# Altium integrated library Altium_WCAP-CSGP_rev19b.IntLib: 939 symbols (part 4 of 16)
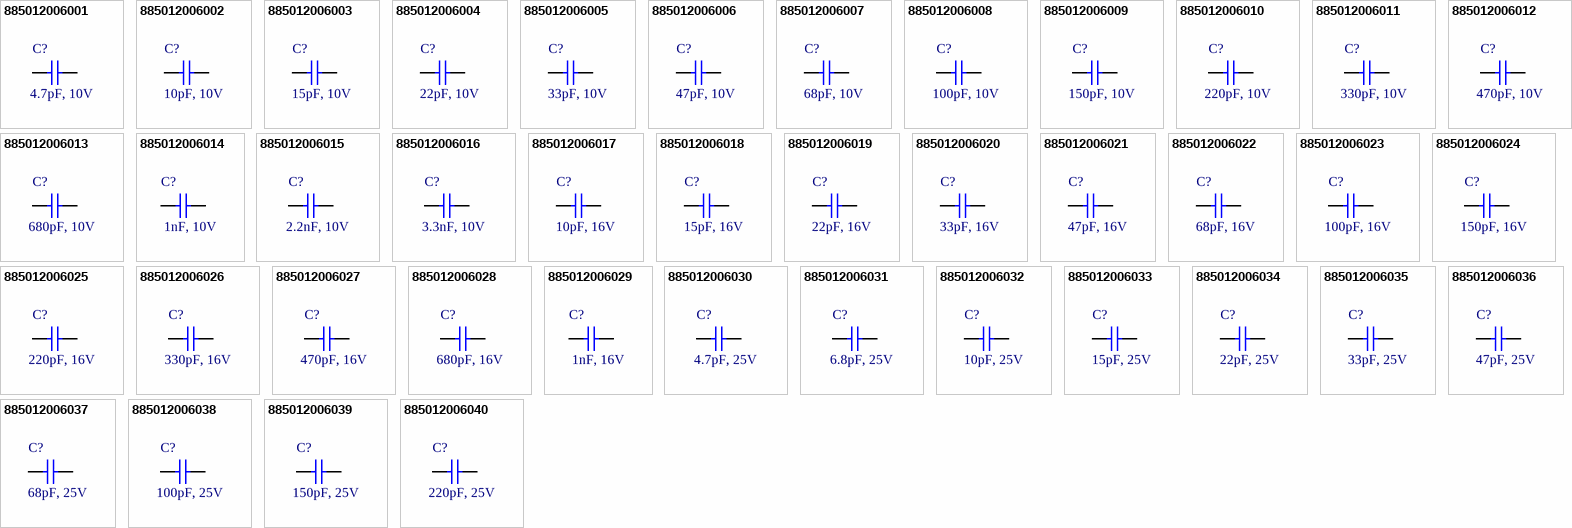
[diagram p30: symbols 885012006001 to 885012006040]

## 885012006028
designator C?, comment 680pF, 16V
WCAP-CSGP General Purpose Ceramic Capacitors, size 0603, 680pF, +/-5%, 16VDC; Part Number: 885012006028; Isolation Resistance: >=10GOhm; Ceramic Type: NP0; Dissipation Factor: Q>=1000; Technical Reference: NP00603681J016DFCT10000; ComponentLink1Description: Manufacturer; ComponentLink1URL: http://www.we-online.de; ComponentLink2Description: Datasheet; ComponentLink2URL: https://katalog.we-online.com/pbs/datasheet/885012006028.pdf; Operating Temperature: -55 to +125degC; Packaging: Tape and Reel; Publisher: Wurth Elektronik; Rated Voltage: 16VDC; Published Date: August 2019; Capacitance Tolerance: +/-5%; Height: 0.8mm +/-0.07mm; Mounting Technology: SMT; Size: 0603; Capacitance: 680pF
footprint WCAP-CSGP_0603_Wave
footprint WCAP-CSGP_0603_Reflow
pins: 1, 2

## 885012006029
designator C?, comment 1nF, 16V
WCAP-CSGP General Purpose Ceramic Capacitors, size 0603, 1nF, +/-5%, 16VDC; Part Number: 885012006029; Isolation Resistance: >=10GOhm; Ceramic Type: NP0; Dissipation Factor: Q>=1000; Technical Reference: NP00603102J016DFCT10000; ComponentLink1Description: Manufacturer; ComponentLink1URL: http://www.we-online.de; ComponentLink2Description: Datasheet; ComponentLink2URL: https://katalog.we-online.com/pbs/datasheet/885012006029.pdf; Operating Temperature: -55 to +125degC; Packaging: Tape and Reel; Publisher: Wurth Elektronik; Rated Voltage: 16VDC; Published Date: August 2019; Capacitance Tolerance: +/-5%; Height: 0.8mm +/-0.07mm; Mounting Technology: SMT; Size: 0603; Capacitance: 1nF
footprint WCAP-CSGP_0603_Wave
footprint WCAP-CSGP_0603_Reflow
pins: 1, 2

## 885012006030
designator C?, comment 4.7pF, 25V
WCAP-CSGP General Purpose Ceramic Capacitors, size 0603, 4.7pF, +/-0.5pF, 25VDC; Part Number: 885012006030; Isolation Resistance: >=10GOhm; Ceramic Type: NP0; Dissipation Factor: Q>=400+20C; Technical Reference: NP006034R7D025DFCT10000; ComponentLink1Description: Manufacturer; ComponentLink1URL: http://www.we-online.de; ComponentLink2Description: Datasheet; ComponentLink2URL: https://katalog.we-online.com/pbs/datasheet/885012006030.pdf; Operating Temperature: -55 to +125degC; Packaging: Tape and Reel; Publisher: Wurth Elektronik; Rated Voltage: 25VDC; Published Date: August 2019; Capacitance Tolerance: +/-0.5pF; Height: 0.8mm +/-0.07mm; Mounting Technology: SMT; Size: 0603; Capacitance: 4.7pF
footprint WCAP-CSGP_0603_Wave
footprint WCAP-CSGP_0603_Reflow
pins: 1, 2

## 885012006031
designator C?, comment 6.8pF, 25V
WCAP-CSGP General Purpose Ceramic Capacitors, size 0603, 6.8pF, +/-0.5pF, 25VDC; Part Number: 885012006031; Isolation Resistance: >=10GOhm; Ceramic Type: NP0; Dissipation Factor: Q>=400+20C; Technical Reference: NP006036R8D025DFCT10000; ComponentLink1Description: Manufacturer; ComponentLink1URL: http://www.we-online.de; ComponentLink2Description: Datasheet; ComponentLink2URL: https://katalog.we-online.com/pbs/datasheet/885012006031.pdf; Operating Temperature: -55 to +125degC; Packaging: Tape and Reel; Publisher: Wurth Elektronik; Rated Voltage: 25VDC; Published Date: August 2019; Capacitance Tolerance: +/-0.5pF; Height: 0.8mm +/-0.07mm; Mounting Technology: SMT; Size: 0603; Capacitance: 6.8pF
footprint WCAP-CSGP_0603_Wave
footprint WCAP-CSGP_0603_Reflow
pins: 1, 2

## 885012006032
designator C?, comment 10pF, 25V
WCAP-CSGP General Purpose Ceramic Capacitors, size 0603, 10pF, +/-5%, 25VDC; Part Number: 885012006032; Isolation Resistance: >=10GOhm; Ceramic Type: NP0; Dissipation Factor: Q>=400+20C; Technical Reference: NP00603100J025DFCT10000; ComponentLink1Description: Manufacturer; ComponentLink1URL: http://www.we-online.de; ComponentLink2Description: Datasheet; ComponentLink2URL: https://katalog.we-online.com/pbs/datasheet/885012006032.pdf; Operating Temperature: -55 to +125degC; Packaging: Tape and Reel; Publisher: Wurth Elektronik; Rated Voltage: 25VDC; Published Date: August 2019; Capacitance Tolerance: +/-5%; Height: 0.8mm +/-0.07mm; Mounting Technology: SMT; Size: 0603; Capacitance: 10pF
footprint WCAP-CSGP_0603_Wave
footprint WCAP-CSGP_0603_Reflow
pins: 1, 2

## 885012006033
designator C?, comment 15pF, 25V
WCAP-CSGP General Purpose Ceramic Capacitors, size 0603, 15pF, +/-5%, 25VDC; Part Number: 885012006033; Isolation Resistance: >=10GOhm; Ceramic Type: NP0; Dissipation Factor: Q>=400+20C; Technical Reference: NP00603150J025DFCT10000; ComponentLink1Description: Manufacturer; ComponentLink1URL: http://www.we-online.de; ComponentLink2Description: Datasheet; ComponentLink2URL: https://katalog.we-online.com/pbs/datasheet/885012006033.pdf; Operating Temperature: -55 to +125degC; Packaging: Tape and Reel; Publisher: Wurth Elektronik; Rated Voltage: 25VDC; Published Date: August 2019; Capacitance Tolerance: +/-5%; Height: 0.8mm +/-0.07mm; Mounting Technology: SMT; Size: 0603; Capacitance: 15pF
footprint WCAP-CSGP_0603_Wave
footprint WCAP-CSGP_0603_Reflow
pins: 1, 2

## 885012006034
designator C?, comment 22pF, 25V
WCAP-CSGP General Purpose Ceramic Capacitors, size 0603, 22pF, +/-5%, 25VDC; Part Number: 885012006034; Isolation Resistance: >=10GOhm; Ceramic Type: NP0; Dissipation Factor: Q>=400+20C; Technical Reference: NP00603220J025DFCT10000; ComponentLink1Description: Manufacturer; ComponentLink1URL: http://www.we-online.de; ComponentLink2Description: Datasheet; ComponentLink2URL: https://katalog.we-online.com/pbs/datasheet/885012006034.pdf; Operating Temperature: -55 to +125degC; Packaging: Tape and Reel; Publisher: Wurth Elektronik; Rated Voltage: 25VDC; Published Date: August 2019; Capacitance Tolerance: +/-5%; Height: 0.8mm +/-0.07mm; Mounting Technology: SMT; Size: 0603; Capacitance: 22pF
footprint WCAP-CSGP_0603_Wave
footprint WCAP-CSGP_0603_Reflow
pins: 1, 2

## 885012006035
designator C?, comment 33pF, 25V
WCAP-CSGP General Purpose Ceramic Capacitors, size 0603, 33pF, +/-5%, 25VDC; Part Number: 885012006035; Isolation Resistance: >=10GOhm; Ceramic Type: NP0; Dissipation Factor: Q>=1000; Technical Reference: NP00603330J025DFCT10000; ComponentLink1Description: Manufacturer; ComponentLink1URL: http://www.we-online.de; ComponentLink2Description: Datasheet; ComponentLink2URL: https://katalog.we-online.com/pbs/datasheet/885012006035.pdf; Operating Temperature: -55 to +125degC; Packaging: Tape and Reel; Publisher: Wurth Elektronik; Rated Voltage: 25VDC; Published Date: August 2019; Capacitance Tolerance: +/-5%; Height: 0.8mm +/-0.07mm; Mounting Technology: SMT; Size: 0603; Capacitance: 33pF
footprint WCAP-CSGP_0603_Wave
footprint WCAP-CSGP_0603_Reflow
pins: 1, 2

## 885012006036
designator C?, comment 47pF, 25V
WCAP-CSGP General Purpose Ceramic Capacitors, size 0603, 47pF, +/-5%, 25VDC; Part Number: 885012006036; Isolation Resistance: >=10GOhm; Ceramic Type: NP0; Dissipation Factor: Q>=1000; Technical Reference: NP00603470J025DFCT10000; ComponentLink1Description: Manufacturer; ComponentLink1URL: http://www.we-online.de; ComponentLink2Description: Datasheet; ComponentLink2URL: https://katalog.we-online.com/pbs/datasheet/885012006036.pdf; Operating Temperature: -55 to +125degC; Packaging: Tape and Reel; Publisher: Wurth Elektronik; Rated Voltage: 25VDC; Published Date: August 2019; Capacitance Tolerance: +/-5%; Height: 0.8mm +/-0.07mm; Mounting Technology: SMT; Size: 0603; Capacitance: 47pF
footprint WCAP-CSGP_0603_Wave
footprint WCAP-CSGP_0603_Reflow
pins: 1, 2

## 885012006037
designator C?, comment 68pF, 25V
WCAP-CSGP General Purpose Ceramic Capacitors, size 0603, 68pF, +/-5%, 25VDC; Part Number: 885012006037; Isolation Resistance: >=10GOhm; Ceramic Type: NP0; Dissipation Factor: Q>=1000; Technical Reference: NP00603680J025DFCT10000; ComponentLink1Description: Manufacturer; ComponentLink1URL: http://www.we-online.de; ComponentLink2Description: Datasheet; ComponentLink2URL: https://katalog.we-online.com/pbs/datasheet/885012006037.pdf; Operating Temperature: -55 to +125degC; Packaging: Tape and Reel; Publisher: Wurth Elektronik; Rated Voltage: 25VDC; Published Date: August 2019; Capacitance Tolerance: +/-5%; Height: 0.8mm +/-0.07mm; Mounting Technology: SMT; Size: 0603; Capacitance: 68pF
footprint WCAP-CSGP_0603_Wave
footprint WCAP-CSGP_0603_Reflow
pins: 1, 2

## 885012006038
designator C?, comment 100pF, 25V
WCAP-CSGP General Purpose Ceramic Capacitors, size 0603, 100pF, +/-5%, 25VDC; Part Number: 885012006038; Isolation Resistance: >=10GOhm; Ceramic Type: NP0; Dissipation Factor: Q>=1000; Technical Reference: NP00603101J025DFCT10000; ComponentLink1Description: Manufacturer; ComponentLink1URL: http://www.we-online.de; ComponentLink2Description: Datasheet; ComponentLink2URL: https://katalog.we-online.com/pbs/datasheet/885012006038.pdf; Operating Temperature: -55 to +125degC; Packaging: Tape and Reel; Publisher: Wurth Elektronik; Rated Voltage: 25VDC; Published Date: August 2019; Capacitance Tolerance: +/-5%; Height: 0.8mm +/-0.07mm; Mounting Technology: SMT; Size: 0603; Capacitance: 100pF
footprint WCAP-CSGP_0603_Wave
footprint WCAP-CSGP_0603_Reflow
pins: 1, 2

## 885012006039
designator C?, comment 150pF, 25V
WCAP-CSGP General Purpose Ceramic Capacitors, size 0603, 150pF, +/-5%, 25VDC; Part Number: 885012006039; Isolation Resistance: >=10GOhm; Ceramic Type: NP0; Dissipation Factor: Q>=1000; Technical Reference: NP00603151J025DFCT10000; ComponentLink1Description: Manufacturer; ComponentLink1URL: http://www.we-online.de; ComponentLink2Description: Datasheet; ComponentLink2URL: https://katalog.we-online.com/pbs/datasheet/885012006039.pdf; Operating Temperature: -55 to +125degC; Packaging: Tape and Reel; Publisher: Wurth Elektronik; Rated Voltage: 25VDC; Published Date: August 2019; Capacitance Tolerance: +/-5%; Height: 0.8mm +/-0.07mm; Mounting Technology: SMT; Size: 0603; Capacitance: 150pF
footprint WCAP-CSGP_0603_Wave
footprint WCAP-CSGP_0603_Reflow
pins: 1, 2

## 885012006040
designator C?, comment 220pF, 25V
WCAP-CSGP General Purpose Ceramic Capacitors, size 0603, 220pF, +/-5%, 25VDC; Part Number: 885012006040; Isolation Resistance: >=10GOhm; Ceramic Type: NP0; Dissipation Factor: Q>=1000; Technical Reference: NP00603221J025DFCT10000; ComponentLink1Description: Manufacturer; ComponentLink1URL: http://www.we-online.de; ComponentLink2Description: Datasheet; ComponentLink2URL: https://katalog.we-online.com/pbs/datasheet/885012006040.pdf; Operating Temperature: -55 to +125degC; Packaging: Tape and Reel; Publisher: Wurth Elektronik; Rated Voltage: 25VDC; Published Date: August 2019; Capacitance Tolerance: +/-5%; Height: 0.8mm +/-0.07mm; Mounting Technology: SMT; Size: 0603; Capacitance: 220pF
footprint WCAP-CSGP_0603_Wave
footprint WCAP-CSGP_0603_Reflow
pins: 1, 2

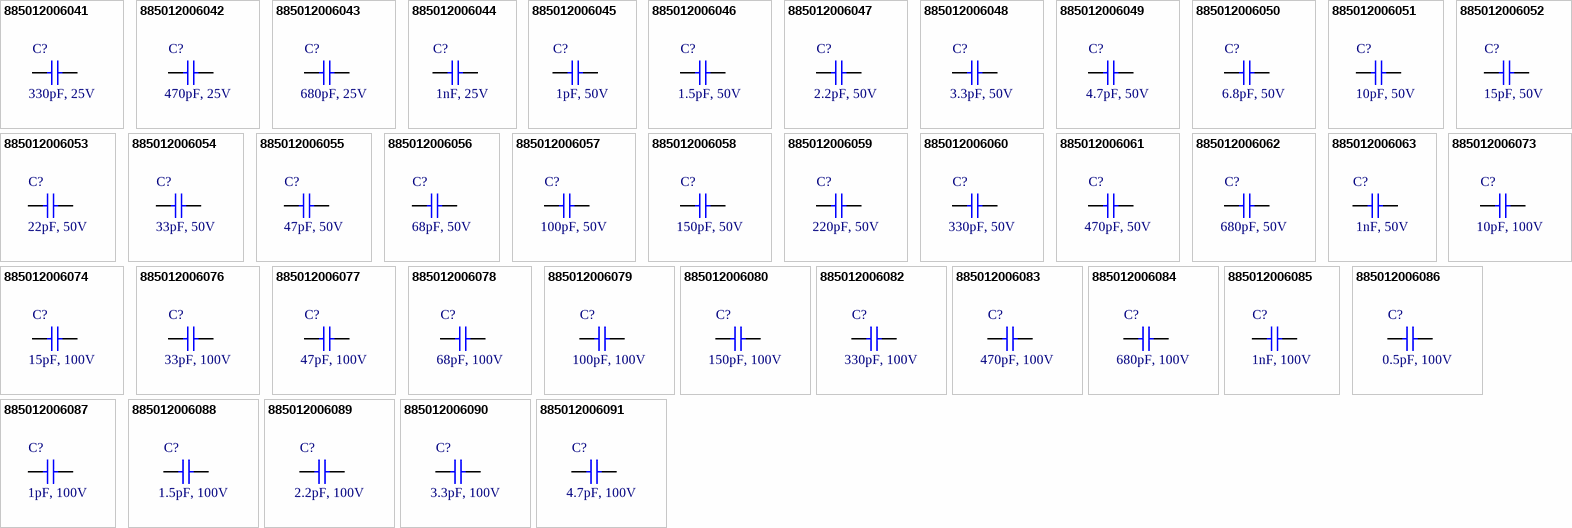
[diagram p6: symbols 885012006041 to 885012006091]

## 885012006041
designator C?, comment 330pF, 25V
WCAP-CSGP General Purpose Ceramic Capacitors, size 0603, 330pF, +/-5%, 25VDC; Part Number: 885012006041; Isolation Resistance: >=10GOhm; Ceramic Type: NP0; Dissipation Factor: Q>=1000; Technical Reference: NP00603331J025DFCT10000; ComponentLink1Description: Manufacturer; ComponentLink1URL: http://www.we-online.de; ComponentLink2Description: Datasheet; ComponentLink2URL: https://katalog.we-online.com/pbs/datasheet/885012006041.pdf; Operating Temperature: -55 to +125degC; Packaging: Tape and Reel; Publisher: Wurth Elektronik; Rated Voltage: 25VDC; Published Date: August 2019; Capacitance Tolerance: +/-5%; Height: 0.8mm +/-0.07mm; Mounting Technology: SMT; Size: 0603; Capacitance: 330pF
footprint WCAP-CSGP_0603_Wave
footprint WCAP-CSGP_0603_Reflow
pins: 1, 2

## 885012006042
designator C?, comment 470pF, 25V
WCAP-CSGP General Purpose Ceramic Capacitors, size 0603, 470pF, +/-5%, 25VDC; Part Number: 885012006042; Isolation Resistance: >=10GOhm; Ceramic Type: NP0; Dissipation Factor: Q>=1000; Technical Reference: NP00603471J025DFCT10000; ComponentLink1Description: Manufacturer; ComponentLink1URL: http://www.we-online.de; ComponentLink2Description: Datasheet; ComponentLink2URL: https://katalog.we-online.com/pbs/datasheet/885012006042.pdf; Operating Temperature: -55 to +125degC; Packaging: Tape and Reel; Publisher: Wurth Elektronik; Rated Voltage: 25VDC; Published Date: August 2019; Capacitance Tolerance: +/-5%; Height: 0.8mm +/-0.07mm; Mounting Technology: SMT; Size: 0603; Capacitance: 470pF
footprint WCAP-CSGP_0603_Wave
footprint WCAP-CSGP_0603_Reflow
pins: 1, 2

## 885012006043
designator C?, comment 680pF, 25V
WCAP-CSGP General Purpose Ceramic Capacitors, size 0603, 680pF, +/-5%, 25VDC; Part Number: 885012006043; Isolation Resistance: >=10GOhm; Ceramic Type: NP0; Dissipation Factor: Q>=1000; Technical Reference: NP00603681J025DFCT10000; ComponentLink1Description: Manufacturer; ComponentLink1URL: http://www.we-online.de; ComponentLink2Description: Datasheet; ComponentLink2URL: https://katalog.we-online.com/pbs/datasheet/885012006043.pdf; Operating Temperature: -55 to +125degC; Packaging: Tape and Reel; Publisher: Wurth Elektronik; Rated Voltage: 25VDC; Published Date: August 2019; Capacitance Tolerance: +/-5%; Height: 0.8mm +/-0.07mm; Mounting Technology: SMT; Size: 0603; Capacitance: 680pF
footprint WCAP-CSGP_0603_Wave
footprint WCAP-CSGP_0603_Reflow
pins: 1, 2

## 885012006044
designator C?, comment 1nF, 25V
WCAP-CSGP General Purpose Ceramic Capacitors, size 0603, 1nF, +/-5%, 25VDC; Part Number: 885012006044; Isolation Resistance: >=10GOhm; Ceramic Type: NP0; Dissipation Factor: Q>=1000; Technical Reference: NP00603102J025DFCT10000; ComponentLink1Description: Manufacturer; ComponentLink1URL: http://www.we-online.de; ComponentLink2Description: Datasheet; ComponentLink2URL: https://katalog.we-online.com/pbs/datasheet/885012006044.pdf; Operating Temperature: -55 to +125degC; Packaging: Tape and Reel; Publisher: Wurth Elektronik; Rated Voltage: 25VDC; Published Date: August 2019; Capacitance Tolerance: +/-5%; Height: 0.8mm +/-0.07mm; Mounting Technology: SMT; Size: 0603; Capacitance: 1nF
footprint WCAP-CSGP_0603_Wave
footprint WCAP-CSGP_0603_Reflow
pins: 1, 2

## 885012006045
designator C?, comment 1pF, 50V
WCAP-CSGP General Purpose Ceramic Capacitors, size 0603, 1pF, +/-0.5pF, 50VDC; Part Number: 885012006045; Isolation Resistance: >=10GOhm; Ceramic Type: NP0; Dissipation Factor: Q>=400+20C; Technical Reference: NP006031R0D050DFCT10000; ComponentLink1Description: Manufacturer; ComponentLink1URL: http://www.we-online.de; ComponentLink2Description: Datasheet; ComponentLink2URL: https://katalog.we-online.com/pbs/datasheet/885012006045.pdf; Operating Temperature: -55 to +125degC; Packaging: Tape and Reel; Publisher: Wurth Elektronik; Rated Voltage: 50VDC; Published Date: August 2019; Capacitance Tolerance: +/-0.5pF; Height: 0.8mm +/-0.07mm; Mounting Technology: SMT; Size: 0603; Capacitance: 1pF
footprint WCAP-CSGP_0603_Wave
footprint WCAP-CSGP_0603_Reflow
pins: 1, 2

## 885012006046
designator C?, comment 1.5pF, 50V
WCAP-CSGP General Purpose Ceramic Capacitors, size 0603, 1.5pF, +/-0.5pF, 50VDC; Part Number: 885012006046; Isolation Resistance: >=10GOhm; Ceramic Type: NP0; Dissipation Factor: Q>=400+20C; Technical Reference: NP006031R5D050DFCT10000; ComponentLink1Description: Manufacturer; ComponentLink1URL: http://www.we-online.de; ComponentLink2Description: Datasheet; ComponentLink2URL: https://katalog.we-online.com/pbs/datasheet/885012006046.pdf; Operating Temperature: -55 to +125degC; Packaging: Tape and Reel; Publisher: Wurth Elektronik; Rated Voltage: 50VDC; Published Date: August 2019; Capacitance Tolerance: +/-0.5pF; Height: 0.8mm +/-0.07mm; Mounting Technology: SMT; Size: 0603; Capacitance: 1.5pF
footprint WCAP-CSGP_0603_Wave
footprint WCAP-CSGP_0603_Reflow
pins: 1, 2

## 885012006047
designator C?, comment 2.2pF, 50V
WCAP-CSGP General Purpose Ceramic Capacitors, size 0603, 2.2pF, +/-0.5pF, 50VDC; Part Number: 885012006047; Isolation Resistance: >=10GOhm; Ceramic Type: NP0; Dissipation Factor: Q>=400+20C; Technical Reference: NP006032R2D050DFCT10000; ComponentLink1Description: Manufacturer; ComponentLink1URL: http://www.we-online.de; ComponentLink2Description: Datasheet; ComponentLink2URL: https://katalog.we-online.com/pbs/datasheet/885012006047.pdf; Operating Temperature: -55 to +125degC; Packaging: Tape and Reel; Publisher: Wurth Elektronik; Rated Voltage: 50VDC; Published Date: August 2019; Capacitance Tolerance: +/-0.5pF; Height: 0.8mm +/-0.07mm; Mounting Technology: SMT; Size: 0603; Capacitance: 2.2pF
footprint WCAP-CSGP_0603_Wave
footprint WCAP-CSGP_0603_Reflow
pins: 1, 2

## 885012006048
designator C?, comment 3.3pF, 50V
WCAP-CSGP General Purpose Ceramic Capacitors, size 0603, 3.3pF, +/-0.5pF, 50VDC; Part Number: 885012006048; Isolation Resistance: >=10GOhm; Ceramic Type: NP0; Dissipation Factor: Q>=400+20C; Technical Reference: NP006033R3D050DFCT10000; ComponentLink1Description: Manufacturer; ComponentLink1URL: http://www.we-online.de; ComponentLink2Description: Datasheet; ComponentLink2URL: https://katalog.we-online.com/pbs/datasheet/885012006048.pdf; Operating Temperature: -55 to +125degC; Packaging: Tape and Reel; Publisher: Wurth Elektronik; Rated Voltage: 50VDC; Published Date: August 2019; Capacitance Tolerance: +/-0.5pF; Height: 0.8mm +/-0.07mm; Mounting Technology: SMT; Size: 0603; Capacitance: 3.3pF
footprint WCAP-CSGP_0603_Wave
footprint WCAP-CSGP_0603_Reflow
pins: 1, 2

## 885012006049
designator C?, comment 4.7pF, 50V
WCAP-CSGP General Purpose Ceramic Capacitors, size 0603, 4.7pF, +/-0.5pF, 50VDC; Part Number: 885012006049; Isolation Resistance: >=10GOhm; Ceramic Type: NP0; Dissipation Factor: Q>=400+20C; Technical Reference: NP006034R7D050DFCT10000; ComponentLink1Description: Manufacturer; ComponentLink1URL: http://www.we-online.de; ComponentLink2Description: Datasheet; ComponentLink2URL: https://katalog.we-online.com/pbs/datasheet/885012006049.pdf; Operating Temperature: -55 to +125degC; Packaging: Tape and Reel; Publisher: Wurth Elektronik; Rated Voltage: 50VDC; Published Date: August 2019; Capacitance Tolerance: +/-0.5pF; Height: 0.8mm +/-0.07mm; Mounting Technology: SMT; Size: 0603; Capacitance: 4.7pF
footprint WCAP-CSGP_0603_Wave
footprint WCAP-CSGP_0603_Reflow
pins: 1, 2

## 885012006050
designator C?, comment 6.8pF, 50V
WCAP-CSGP General Purpose Ceramic Capacitors, size 0603, 6.8pF, +/-0.5pF, 50VDC; Part Number: 885012006050; Isolation Resistance: >=10GOhm; Ceramic Type: NP0; Dissipation Factor: Q>=400+20C; Technical Reference: NP006036R8D050DFCT10000; ComponentLink1Description: Manufacturer; ComponentLink1URL: http://www.we-online.de; ComponentLink2Description: Datasheet; ComponentLink2URL: https://katalog.we-online.com/pbs/datasheet/885012006050.pdf; Operating Temperature: -55 to +125degC; Packaging: Tape and Reel; Publisher: Wurth Elektronik; Rated Voltage: 50VDC; Published Date: August 2019; Capacitance Tolerance: +/-0.5pF; Height: 0.8mm +/-0.07mm; Mounting Technology: SMT; Size: 0603; Capacitance: 6.8pF
footprint WCAP-CSGP_0603_Wave
footprint WCAP-CSGP_0603_Reflow
pins: 1, 2

## 885012006051
designator C?, comment 10pF, 50V
WCAP-CSGP General Purpose Ceramic Capacitors, size 0603, 10pF, +/-5%, 50VDC; Part Number: 885012006051; Isolation Resistance: >=10GOhm; Ceramic Type: NP0; Dissipation Factor: Q>=400+20C; Technical Reference: NP00603100J050DFCT10000; ComponentLink1Description: Manufacturer; ComponentLink1URL: http://www.we-online.de; ComponentLink2Description: Datasheet; ComponentLink2URL: https://katalog.we-online.com/pbs/datasheet/885012006051.pdf; Operating Temperature: -55 to +125degC; Packaging: Tape and Reel; Publisher: Wurth Elektronik; Rated Voltage: 50VDC; Published Date: August 2019; Capacitance Tolerance: +/-5%; Height: 0.8mm +/-0.07mm; Mounting Technology: SMT; Size: 0603; Capacitance: 10pF
footprint WCAP-CSGP_0603_Wave
footprint WCAP-CSGP_0603_Reflow
pins: 1, 2

## 885012006052
designator C?, comment 15pF, 50V
WCAP-CSGP General Purpose Ceramic Capacitors, size 0603, 15pF, +/-5%, 50VDC; Part Number: 885012006052; Isolation Resistance: >=10GOhm; Ceramic Type: NP0; Dissipation Factor: Q>=400+20C; Technical Reference: NP00603150J050DFCT10000; ComponentLink1Description: Manufacturer; ComponentLink1URL: http://www.we-online.de; ComponentLink2Description: Datasheet; ComponentLink2URL: https://katalog.we-online.com/pbs/datasheet/885012006052.pdf; Operating Temperature: -55 to +125degC; Packaging: Tape and Reel; Publisher: Wurth Elektronik; Rated Voltage: 50VDC; Published Date: August 2019; Capacitance Tolerance: +/-5%; Height: 0.8mm +/-0.07mm; Mounting Technology: SMT; Size: 0603; Capacitance: 15pF
footprint WCAP-CSGP_0603_Wave
footprint WCAP-CSGP_0603_Reflow
pins: 1, 2

## 885012006053
designator C?, comment 22pF, 50V
WCAP-CSGP General Purpose Ceramic Capacitors, size 0603, 22pF, +/-5%, 50VDC; Part Number: 885012006053; Isolation Resistance: >=10GOhm; Ceramic Type: NP0; Dissipation Factor: Q>=400+20C; Technical Reference: NP00603220J050DFCT10000; ComponentLink1Description: Manufacturer; ComponentLink1URL: http://www.we-online.de; ComponentLink2Description: Datasheet; ComponentLink2URL: https://katalog.we-online.com/pbs/datasheet/885012006053.pdf; Operating Temperature: -55 to +125degC; Packaging: Tape and Reel; Publisher: Wurth Elektronik; Rated Voltage: 50VDC; Published Date: August 2019; Capacitance Tolerance: +/-5%; Height: 0.8mm +/-0.07mm; Mounting Technology: SMT; Size: 0603; Capacitance: 22pF
footprint WCAP-CSGP_0603_Wave
footprint WCAP-CSGP_0603_Reflow
pins: 1, 2

## 885012006054
designator C?, comment 33pF, 50V
WCAP-CSGP General Purpose Ceramic Capacitors, size 0603, 33pF, +/-5%, 50VDC; Part Number: 885012006054; Isolation Resistance: >=10GOhm; Ceramic Type: NP0; Dissipation Factor: Q>=1000; Technical Reference: NP00603330J050DFCT10000; ComponentLink1Description: Manufacturer; ComponentLink1URL: http://www.we-online.de; ComponentLink2Description: Datasheet; ComponentLink2URL: https://katalog.we-online.com/pbs/datasheet/885012006054.pdf; Operating Temperature: -55 to +125degC; Packaging: Tape and Reel; Publisher: Wurth Elektronik; Rated Voltage: 50VDC; Published Date: August 2019; Capacitance Tolerance: +/-5%; Height: 0.8mm +/-0.07mm; Mounting Technology: SMT; Size: 0603; Capacitance: 33pF
footprint WCAP-CSGP_0603_Wave
footprint WCAP-CSGP_0603_Reflow
pins: 1, 2

## 885012006055
designator C?, comment 47pF, 50V
WCAP-CSGP General Purpose Ceramic Capacitors, size 0603, 47pF, +/-5%, 50VDC; Part Number: 885012006055; Isolation Resistance: >=10GOhm; Ceramic Type: NP0; Dissipation Factor: Q>=1000; Technical Reference: NP00603470J050DFCT10000; ComponentLink1Description: Manufacturer; ComponentLink1URL: http://www.we-online.de; ComponentLink2Description: Datasheet; ComponentLink2URL: https://katalog.we-online.com/pbs/datasheet/885012006055.pdf; Operating Temperature: -55 to +125degC; Packaging: Tape and Reel; Publisher: Wurth Elektronik; Rated Voltage: 50VDC; Published Date: August 2019; Capacitance Tolerance: +/-5%; Height: 0.8mm +/-0.07mm; Mounting Technology: SMT; Size: 0603; Capacitance: 47pF
footprint WCAP-CSGP_0603_Wave
footprint WCAP-CSGP_0603_Reflow
pins: 1, 2

## 885012006056
designator C?, comment 68pF, 50V
WCAP-CSGP General Purpose Ceramic Capacitors, size 0603, 68pF, +/-5%, 50VDC; Part Number: 885012006056; Isolation Resistance: >=10GOhm; Ceramic Type: NP0; Dissipation Factor: Q>=1000; Technical Reference: NP00603680J050DFCT10000; ComponentLink1Description: Manufacturer; ComponentLink1URL: http://www.we-online.de; ComponentLink2Description: Datasheet; ComponentLink2URL: https://katalog.we-online.com/pbs/datasheet/885012006056.pdf; Operating Temperature: -55 to +125degC; Packaging: Tape and Reel; Publisher: Wurth Elektronik; Rated Voltage: 50VDC; Published Date: August 2019; Capacitance Tolerance: +/-5%; Height: 0.8mm +/-0.07mm; Mounting Technology: SMT; Size: 0603; Capacitance: 68pF
footprint WCAP-CSGP_0603_Wave
footprint WCAP-CSGP_0603_Reflow
pins: 1, 2

## 885012006057
designator C?, comment 100pF, 50V
WCAP-CSGP General Purpose Ceramic Capacitors, size 0603, 100pF, +/-5%, 50VDC; Part Number: 885012006057; Isolation Resistance: >=10GOhm; Ceramic Type: NP0; Dissipation Factor: Q>=1000; Technical Reference: NP00603101J050DFCT10000; ComponentLink1Description: Manufacturer; ComponentLink1URL: http://www.we-online.de; ComponentLink2Description: Datasheet; ComponentLink2URL: https://katalog.we-online.com/pbs/datasheet/885012006057.pdf; Operating Temperature: -55 to +125degC; Packaging: Tape and Reel; Publisher: Wurth Elektronik; Rated Voltage: 50VDC; Published Date: August 2019; Capacitance Tolerance: +/-5%; Height: 0.8mm +/-0.07mm; Mounting Technology: SMT; Size: 0603; Capacitance: 100pF
footprint WCAP-CSGP_0603_Wave
footprint WCAP-CSGP_0603_Reflow
pins: 1, 2

## 885012006058
designator C?, comment 150pF, 50V
WCAP-CSGP General Purpose Ceramic Capacitors, size 0603, 150pF, +/-5%, 50VDC; Part Number: 885012006058; Isolation Resistance: >=10GOhm; Ceramic Type: NP0; Dissipation Factor: Q>=1000; Technical Reference: NP00603151J050DFCT10000; ComponentLink1Description: Manufacturer; ComponentLink1URL: http://www.we-online.de; ComponentLink2Description: Datasheet; ComponentLink2URL: https://katalog.we-online.com/pbs/datasheet/885012006058.pdf; Operating Temperature: -55 to +125degC; Packaging: Tape and Reel; Publisher: Wurth Elektronik; Rated Voltage: 50VDC; Published Date: August 2019; Capacitance Tolerance: +/-5%; Height: 0.8mm +/-0.07mm; Mounting Technology: SMT; Size: 0603; Capacitance: 150pF
footprint WCAP-CSGP_0603_Wave
footprint WCAP-CSGP_0603_Reflow
pins: 1, 2

## 885012006059
designator C?, comment 220pF, 50V
WCAP-CSGP General Purpose Ceramic Capacitors, size 0603, 220pF, +/-5%, 50VDC; Part Number: 885012006059; Isolation Resistance: >=10GOhm; Ceramic Type: NP0; Dissipation Factor: Q>=1000; Technical Reference: NP00603221J050DFCT10000; ComponentLink1Description: Manufacturer; ComponentLink1URL: http://www.we-online.de; ComponentLink2Description: Datasheet; ComponentLink2URL: https://katalog.we-online.com/pbs/datasheet/885012006059.pdf; Operating Temperature: -55 to +125degC; Packaging: Tape and Reel; Publisher: Wurth Elektronik; Rated Voltage: 50VDC; Published Date: August 2019; Capacitance Tolerance: +/-5%; Height: 0.8mm +/-0.07mm; Mounting Technology: SMT; Size: 0603; Capacitance: 220pF
footprint WCAP-CSGP_0603_Wave
footprint WCAP-CSGP_0603_Reflow
pins: 1, 2

## 885012006060
designator C?, comment 330pF, 50V
WCAP-CSGP General Purpose Ceramic Capacitors, size 0603, 330pF, +/-5%, 50VDC; Part Number: 885012006060; Isolation Resistance: >=10GOhm; Ceramic Type: NP0; Dissipation Factor: Q>=1000; Technical Reference: NP00603331J050DFCT10000; ComponentLink1Description: Manufacturer; ComponentLink1URL: http://www.we-online.de; ComponentLink2Description: Datasheet; ComponentLink2URL: https://katalog.we-online.com/pbs/datasheet/885012006060.pdf; Operating Temperature: -55 to +125degC; Packaging: Tape and Reel; Publisher: Wurth Elektronik; Rated Voltage: 50VDC; Published Date: August 2019; Capacitance Tolerance: +/-5%; Height: 0.8mm +/-0.07mm; Mounting Technology: SMT; Size: 0603; Capacitance: 330pF
footprint WCAP-CSGP_0603_Wave
footprint WCAP-CSGP_0603_Reflow
pins: 1, 2

## 885012006061
designator C?, comment 470pF, 50V
WCAP-CSGP General Purpose Ceramic Capacitors, size 0603, 470pF, +/-5%, 50VDC; Part Number: 885012006061; Isolation Resistance: >=10GOhm; Ceramic Type: NP0; Dissipation Factor: Q>=1000; Technical Reference: NP00603471J050DFCT10000; ComponentLink1Description: Manufacturer; ComponentLink1URL: http://www.we-online.de; ComponentLink2Description: Datasheet; ComponentLink2URL: https://katalog.we-online.com/pbs/datasheet/885012006061.pdf; Operating Temperature: -55 to +125degC; Packaging: Tape and Reel; Publisher: Wurth Elektronik; Rated Voltage: 50VDC; Published Date: August 2019; Capacitance Tolerance: +/-5%; Height: 0.8mm +/-0.07mm; Mounting Technology: SMT; Size: 0603; Capacitance: 470pF
footprint WCAP-CSGP_0603_Wave
footprint WCAP-CSGP_0603_Reflow
pins: 1, 2

## 885012006062
designator C?, comment 680pF, 50V
WCAP-CSGP General Purpose Ceramic Capacitors, size 0603, 680pF, +/-5%, 50VDC; Part Number: 885012006062; Isolation Resistance: >=10GOhm; Ceramic Type: NP0; Dissipation Factor: Q>=1000; Technical Reference: NP00603681J050DFCT10000; ComponentLink1Description: Manufacturer; ComponentLink1URL: http://www.we-online.de; ComponentLink2Description: Datasheet; ComponentLink2URL: https://katalog.we-online.com/pbs/datasheet/885012006062.pdf; Operating Temperature: -55 to +125degC; Packaging: Tape and Reel; Publisher: Wurth Elektronik; Rated Voltage: 50VDC; Published Date: August 2019; Capacitance Tolerance: +/-5%; Height: 0.8mm +/-0.07mm; Mounting Technology: SMT; Size: 0603; Capacitance: 680pF
footprint WCAP-CSGP_0603_Wave
footprint WCAP-CSGP_0603_Reflow
pins: 1, 2

## 885012006063
designator C?, comment 1nF, 50V
WCAP-CSGP General Purpose Ceramic Capacitors, size 0603, 1nF, +/-5%, 50VDC; Part Number: 885012006063; Isolation Resistance: >=10GOhm; Ceramic Type: NP0; Dissipation Factor: Q>=1000; Technical Reference: NP00603102J050DFCT10000; ComponentLink1Description: Manufacturer; ComponentLink1URL: http://www.we-online.de; ComponentLink2Description: Datasheet; ComponentLink2URL: https://katalog.we-online.com/pbs/datasheet/885012006063.pdf; Operating Temperature: -55 to +125degC; Packaging: Tape and Reel; Publisher: Wurth Elektronik; Rated Voltage: 50VDC; Published Date: August 2019; Capacitance Tolerance: +/-5%; Height: 0.8mm +/-0.07mm; Mounting Technology: SMT; Size: 0603; Capacitance: 1nF
footprint WCAP-CSGP_0603_Wave
footprint WCAP-CSGP_0603_Reflow
pins: 1, 2

## 885012006073
designator C?, comment 10pF, 100V
WCAP-CSGP General Purpose Ceramic Capacitors, size 0603, 10pF, +/-5%, 100VDC; Part Number: 885012006073; Isolation Resistance: >=10GOhm; Ceramic Type: NP0; Dissipation Factor: Q>=400+20C; Technical Reference: NP00603100J100DFCT10000; ComponentLink1Description: Manufacturer; ComponentLink1URL: http://www.we-online.de; ComponentLink2Description: Datasheet; ComponentLink2URL: https://katalog.we-online.com/pbs/datasheet/885012006073.pdf; Operating Temperature: -55 to +125degC; Packaging: Tape and Reel; Publisher: Wurth Elektronik; Rated Voltage: 100VDC; Published Date: August 2019; Capacitance Tolerance: +/-5%; Height: 0.8mm +/-0.07mm; Mounting Technology: SMT; Size: 0603; Capacitance: 10pF
footprint WCAP-CSGP_0603_Wave
footprint WCAP-CSGP_0603_Reflow
pins: 1, 2

## 885012006074
designator C?, comment 15pF, 100V
WCAP-CSGP General Purpose Ceramic Capacitors, size 0603, 15pF, +/-5%, 100VDC; Part Number: 885012006074; Isolation Resistance: >=10GOhm; Ceramic Type: NP0; Dissipation Factor: Q>=400+20C; Technical Reference: NP00603150J100DFCT10000; ComponentLink1Description: Manufacturer; ComponentLink1URL: http://www.we-online.de; ComponentLink2Description: Datasheet; ComponentLink2URL: https://katalog.we-online.com/pbs/datasheet/885012006074.pdf; Operating Temperature: -55 to +125degC; Packaging: Tape and Reel; Publisher: Wurth Elektronik; Rated Voltage: 100VDC; Published Date: August 2019; Capacitance Tolerance: +/-5%; Height: 0.8mm +/-0.07mm; Mounting Technology: SMT; Size: 0603; Capacitance: 15pF
footprint WCAP-CSGP_0603_Wave
footprint WCAP-CSGP_0603_Reflow
pins: 1, 2

## 885012006076
designator C?, comment 33pF, 100V
WCAP-CSGP General Purpose Ceramic Capacitors, size 0603, 33pF, +/-5%, 100VDC; Part Number: 885012006076; Isolation Resistance: >=10GOhm; Ceramic Type: NP0; Dissipation Factor: Q>=1000; Technical Reference: NP00603330J100DFCT10000; ComponentLink1Description: Manufacturer; ComponentLink1URL: http://www.we-online.de; ComponentLink2Description: Datasheet; ComponentLink2URL: https://katalog.we-online.com/pbs/datasheet/885012006076.pdf; Operating Temperature: -55 to +125degC; Packaging: Tape and Reel; Publisher: Wurth Elektronik; Rated Voltage: 100VDC; Published Date: August 2019; Capacitance Tolerance: +/-5%; Height: 0.8mm +/-0.07mm; Mounting Technology: SMT; Size: 0603; Capacitance: 33pF
footprint WCAP-CSGP_0603_Wave
footprint WCAP-CSGP_0603_Reflow
pins: 1, 2

## 885012006077
designator C?, comment 47pF, 100V
WCAP-CSGP General Purpose Ceramic Capacitors, size 0603, 47pF, +/-5%, 100VDC; Part Number: 885012006077; Isolation Resistance: >=10GOhm; Ceramic Type: NP0; Dissipation Factor: Q>=1000; Technical Reference: NP00603470J100DFCT10000; ComponentLink1Description: Manufacturer; ComponentLink1URL: http://www.we-online.de; ComponentLink2Description: Datasheet; ComponentLink2URL: https://katalog.we-online.com/pbs/datasheet/885012006077.pdf; Operating Temperature: -55 to +125degC; Packaging: Tape and Reel; Publisher: Wurth Elektronik; Rated Voltage: 100VDC; Published Date: August 2019; Capacitance Tolerance: +/-5%; Height: 0.8mm +/-0.07mm; Mounting Technology: SMT; Size: 0603; Capacitance: 47pF
footprint WCAP-CSGP_0603_Wave
footprint WCAP-CSGP_0603_Reflow
pins: 1, 2

## 885012006078
designator C?, comment 68pF, 100V
WCAP-CSGP General Purpose Ceramic Capacitors, size 0603, 68pF, +/-5%, 100VDC; Part Number: 885012006078; Isolation Resistance: >=10GOhm; Ceramic Type: NP0; Dissipation Factor: Q>=1000; Technical Reference: NP00603680J100DFCT10000; ComponentLink1Description: Manufacturer; ComponentLink1URL: http://www.we-online.de; ComponentLink2Description: Datasheet; ComponentLink2URL: https://katalog.we-online.com/pbs/datasheet/885012006078.pdf; Operating Temperature: -55 to +125degC; Packaging: Tape and Reel; Publisher: Wurth Elektronik; Rated Voltage: 100VDC; Published Date: August 2019; Capacitance Tolerance: +/-5%; Height: 0.8mm +/-0.07mm; Mounting Technology: SMT; Size: 0603; Capacitance: 68pF
footprint WCAP-CSGP_0603_Wave
footprint WCAP-CSGP_0603_Reflow
pins: 1, 2

## 885012006079
designator C?, comment 100pF, 100V
WCAP-CSGP General Purpose Ceramic Capacitors, size 0603, 100pF, +/-5%, 100VDC; Part Number: 885012006079; Isolation Resistance: >=10GOhm; Ceramic Type: NP0; Dissipation Factor: Q>=1000; Technical Reference: NP00603101J100DFCT10000; ComponentLink1Description: Manufacturer; ComponentLink1URL: http://www.we-online.de; ComponentLink2Description: Datasheet; ComponentLink2URL: https://katalog.we-online.com/pbs/datasheet/885012006079.pdf; Operating Temperature: -55 to +125degC; Packaging: Tape and Reel; Publisher: Wurth Elektronik; Rated Voltage: 100VDC; Published Date: August 2019; Capacitance Tolerance: +/-5%; Height: 0.8mm +/-0.07mm; Mounting Technology: SMT; Size: 0603; Capacitance: 100pF
footprint WCAP-CSGP_0603_Wave
footprint WCAP-CSGP_0603_Reflow
pins: 1, 2

## 885012006080
designator C?, comment 150pF, 100V
WCAP-CSGP General Purpose Ceramic Capacitors, size 0603, 150pF, +/-5%, 100VDC; Part Number: 885012006080; Isolation Resistance: >=10GOhm; Ceramic Type: NP0; Dissipation Factor: Q>=1000; Technical Reference: NP00603151J100DFCT10000; ComponentLink1Description: Manufacturer; ComponentLink1URL: http://www.we-online.de; ComponentLink2Description: Datasheet; ComponentLink2URL: https://katalog.we-online.com/pbs/datasheet/885012006080.pdf; Operating Temperature: -55 to +125degC; Packaging: Tape and Reel; Publisher: Wurth Elektronik; Rated Voltage: 100VDC; Published Date: August 2019; Capacitance Tolerance: +/-5%; Height: 0.8mm +/-0.07mm; Mounting Technology: SMT; Size: 0603; Capacitance: 150pF
footprint WCAP-CSGP_0603_Wave
footprint WCAP-CSGP_0603_Reflow
pins: 1, 2

## 885012006082
designator C?, comment 330pF, 100V
WCAP-CSGP General Purpose Ceramic Capacitors, size 0603, 330pF, +/-5%, 100VDC; Part Number: 885012006082; Isolation Resistance: >=10GOhm; Ceramic Type: NP0; Dissipation Factor: Q>=1000; Technical Reference: NP00603331J100DFCT10000; ComponentLink1Description: Manufacturer; ComponentLink1URL: http://www.we-online.de; ComponentLink2Description: Datasheet; ComponentLink2URL: https://katalog.we-online.com/pbs/datasheet/885012006082.pdf; Operating Temperature: -55 to +125degC; Packaging: Tape and Reel; Publisher: Wurth Elektronik; Rated Voltage: 100VDC; Published Date: August 2019; Capacitance Tolerance: +/-5%; Height: 0.8mm +/-0.07mm; Mounting Technology: SMT; Size: 0603; Capacitance: 330pF
footprint WCAP-CSGP_0603_Wave
footprint WCAP-CSGP_0603_Reflow
pins: 1, 2

## 885012006083
designator C?, comment 470pF, 100V
WCAP-CSGP General Purpose Ceramic Capacitors, size 0603, 470pF, +/-5%, 100VDC; Part Number: 885012006083; Isolation Resistance: >=10GOhm; Ceramic Type: NP0; Dissipation Factor: Q>=1000; Technical Reference: NP00603471J100DFCT10000; ComponentLink1Description: Manufacturer; ComponentLink1URL: http://www.we-online.de; ComponentLink2Description: Datasheet; ComponentLink2URL: https://katalog.we-online.com/pbs/datasheet/885012006083.pdf; Operating Temperature: -55 to +125degC; Packaging: Tape and Reel; Publisher: Wurth Elektronik; Rated Voltage: 100VDC; Published Date: August 2019; Capacitance Tolerance: +/-5%; Height: 0.8mm +/-0.07mm; Mounting Technology: SMT; Size: 0603; Capacitance: 470pF
footprint WCAP-CSGP_0603_Wave
footprint WCAP-CSGP_0603_Reflow
pins: 1, 2

## 885012006084
designator C?, comment 680pF, 100V
WCAP-CSGP General Purpose Ceramic Capacitors, size 0603, 680pF, +/-5%, 100VDC; Part Number: 885012006084; Isolation Resistance: >=10GOhm; Ceramic Type: NP0; Dissipation Factor: Q>=1000; Technical Reference: NP00603681J100DFCT10000; ComponentLink1Description: Manufacturer; ComponentLink1URL: http://www.we-online.de; ComponentLink2Description: Datasheet; ComponentLink2URL: https://katalog.we-online.com/pbs/datasheet/885012006084.pdf; Operating Temperature: -55 to +125degC; Packaging: Tape and Reel; Publisher: Wurth Elektronik; Rated Voltage: 100VDC; Published Date: August 2019; Capacitance Tolerance: +/-5%; Height: 0.8mm +/-0.07mm; Mounting Technology: SMT; Size: 0603; Capacitance: 680pF
footprint WCAP-CSGP_0603_Wave
footprint WCAP-CSGP_0603_Reflow
pins: 1, 2

## 885012006085
designator C?, comment 1nF, 100V
WCAP-CSGP General Purpose Ceramic Capacitors, size 0603, 1nF, +/-5%, 100VDC; Part Number: 885012006085; Isolation Resistance: >=10GOhm; Ceramic Type: NP0; Dissipation Factor: Q>=1000; Technical Reference: NP00603102J100DFCT10000; ComponentLink1Description: Manufacturer; ComponentLink1URL: http://www.we-online.de; ComponentLink2Description: Datasheet; ComponentLink2URL: https://katalog.we-online.com/pbs/datasheet/885012006085.pdf; Operating Temperature: -55 to +125degC; Packaging: Tape and Reel; Publisher: Wurth Elektronik; Rated Voltage: 100VDC; Published Date: August 2019; Capacitance Tolerance: +/-5%; Height: 0.8mm +/-0.07mm; Mounting Technology: SMT; Size: 0603; Capacitance: 1nF
footprint WCAP-CSGP_0603_Wave
footprint WCAP-CSGP_0603_Reflow
pins: 1, 2

## 885012006086
designator C?, comment 0.5pF, 100V
WCAP-CSGP General Purpose Ceramic Capacitors, size 0603, 0.5pF, +/-0.25pF, 100VDC; Part Number: 885012006086; Isolation Resistance: >=10GOhm; Ceramic Type: NP0; Dissipation Factor: Q>=400+20C; Technical Reference: NP006030R5C100DFCT10000; ComponentLink1Description: Manufacturer; ComponentLink1URL: http://www.we-online.de; ComponentLink2Description: Datasheet; ComponentLink2URL: https://katalog.we-online.com/pbs/datasheet/885012006086.pdf; Operating Temperature: -55 to +125degC; Packaging: Tape and Reel; Publisher: Wurth Elektronik; Rated Voltage: 100VDC; Published Date: August 2019; Capacitance Tolerance: +/-0.25pF; Height: 0.8mm +/-0.07mm; Mounting Technology: SMT; Size: 0603; Capacitance: 0.5pF
footprint WCAP-CSGP_0603_Wave
footprint WCAP-CSGP_0603_Reflow
pins: 1, 2

## 885012006087
designator C?, comment 1pF, 100V
WCAP-CSGP General Purpose Ceramic Capacitors, size 0603, 1pF, +/-0.25pF, 100VDC; Part Number: 885012006087; Isolation Resistance: >=10GOhm; Ceramic Type: NP0; Dissipation Factor: Q>=400+20C; Technical Reference: NP006031R0C100DFCT10000; ComponentLink1Description: Manufacturer; ComponentLink1URL: http://www.we-online.de; ComponentLink2Description: Datasheet; ComponentLink2URL: https://katalog.we-online.com/pbs/datasheet/885012006087.pdf; Operating Temperature: -55 to +125degC; Packaging: Tape and Reel; Publisher: Wurth Elektronik; Rated Voltage: 100VDC; Published Date: August 2019; Capacitance Tolerance: +/-0.25pF; Height: 0.8mm +/-0.07mm; Mounting Technology: SMT; Size: 0603; Capacitance: 1pF
footprint WCAP-CSGP_0603_Wave
footprint WCAP-CSGP_0603_Reflow
pins: 1, 2

## 885012006088
designator C?, comment 1.5pF, 100V
WCAP-CSGP General Purpose Ceramic Capacitors, size 0603, 1.5pF, +/-0.25pF, 100VDC; Part Number: 885012006088; Isolation Resistance: >=10GOhm; Ceramic Type: NP0; Dissipation Factor: Q>=400+20C; Technical Reference: NP006031R5C100DFCT10000; ComponentLink1Description: Manufacturer; ComponentLink1URL: http://www.we-online.de; ComponentLink2Description: Datasheet; ComponentLink2URL: https://katalog.we-online.com/pbs/datasheet/885012006088.pdf; Operating Temperature: -55 to +125degC; Packaging: Tape and Reel; Publisher: Wurth Elektronik; Rated Voltage: 100VDC; Published Date: August 2019; Capacitance Tolerance: +/-0.25pF; Height: 0.8mm +/-0.07mm; Mounting Technology: SMT; Size: 0603; Capacitance: 1.5pF
footprint WCAP-CSGP_0603_Wave
footprint WCAP-CSGP_0603_Reflow
pins: 1, 2

## 885012006089
designator C?, comment 2.2pF, 100V
WCAP-CSGP General Purpose Ceramic Capacitors, size 0603, 2.2pF, +/-0.25pF, 100VDC; Part Number: 885012006089; Isolation Resistance: >=10GOhm; Ceramic Type: NP0; Dissipation Factor: Q>=400+20C; Technical Reference: NP006032R2C100DFCT10000; ComponentLink1Description: Manufacturer; ComponentLink1URL: http://www.we-online.de; ComponentLink2Description: Datasheet; ComponentLink2URL: https://katalog.we-online.com/pbs/datasheet/885012006089.pdf; Operating Temperature: -55 to +125degC; Packaging: Tape and Reel; Publisher: Wurth Elektronik; Rated Voltage: 100VDC; Published Date: August 2019; Capacitance Tolerance: +/-0.25pF; Height: 0.8mm +/-0.07mm; Mounting Technology: SMT; Size: 0603; Capacitance: 2.2pF
footprint WCAP-CSGP_0603_Wave
footprint WCAP-CSGP_0603_Reflow
pins: 1, 2

## 885012006090
designator C?, comment 3.3pF, 100V
WCAP-CSGP General Purpose Ceramic Capacitors, size 0603, 3.3pF, +/-0.25pF, 100VDC; Part Number: 885012006090; Isolation Resistance: >=10GOhm; Ceramic Type: NP0; Dissipation Factor: Q>=400+20C; Technical Reference: NP006033R3C100DFCT10000; ComponentLink1Description: Manufacturer; ComponentLink1URL: http://www.we-online.de; ComponentLink2Description: Datasheet; ComponentLink2URL: https://katalog.we-online.com/pbs/datasheet/885012006090.pdf; Operating Temperature: -55 to +125degC; Packaging: Tape and Reel; Publisher: Wurth Elektronik; Rated Voltage: 100VDC; Published Date: August 2019; Capacitance Tolerance: +/-0.25pF; Height: 0.8mm +/-0.07mm; Mounting Technology: SMT; Size: 0603; Capacitance: 3.3pF
footprint WCAP-CSGP_0603_Wave
footprint WCAP-CSGP_0603_Reflow
pins: 1, 2

## 885012006091
designator C?, comment 4.7pF, 100V
WCAP-CSGP General Purpose Ceramic Capacitors, size 0603, 4.7pF, +/-0.25pF, 100VDC; Part Number: 885012006091; Isolation Resistance: >=10GOhm; Ceramic Type: NP0; Dissipation Factor: Q>=400+20C; Technical Reference: NP006034R7C100DFCT10000; ComponentLink1Description: Manufacturer; ComponentLink1URL: http://www.we-online.de; ComponentLink2Description: Datasheet; ComponentLink2URL: https://katalog.we-online.com/pbs/datasheet/885012006091.pdf; Operating Temperature: -55 to +125degC; Packaging: Tape and Reel; Publisher: Wurth Elektronik; Rated Voltage: 100VDC; Published Date: August 2019; Capacitance Tolerance: +/-0.25pF; Height: 0.8mm +/-0.07mm; Mounting Technology: SMT; Size: 0603; Capacitance: 4.7pF
footprint WCAP-CSGP_0603_Wave
footprint WCAP-CSGP_0603_Reflow
pins: 1, 2

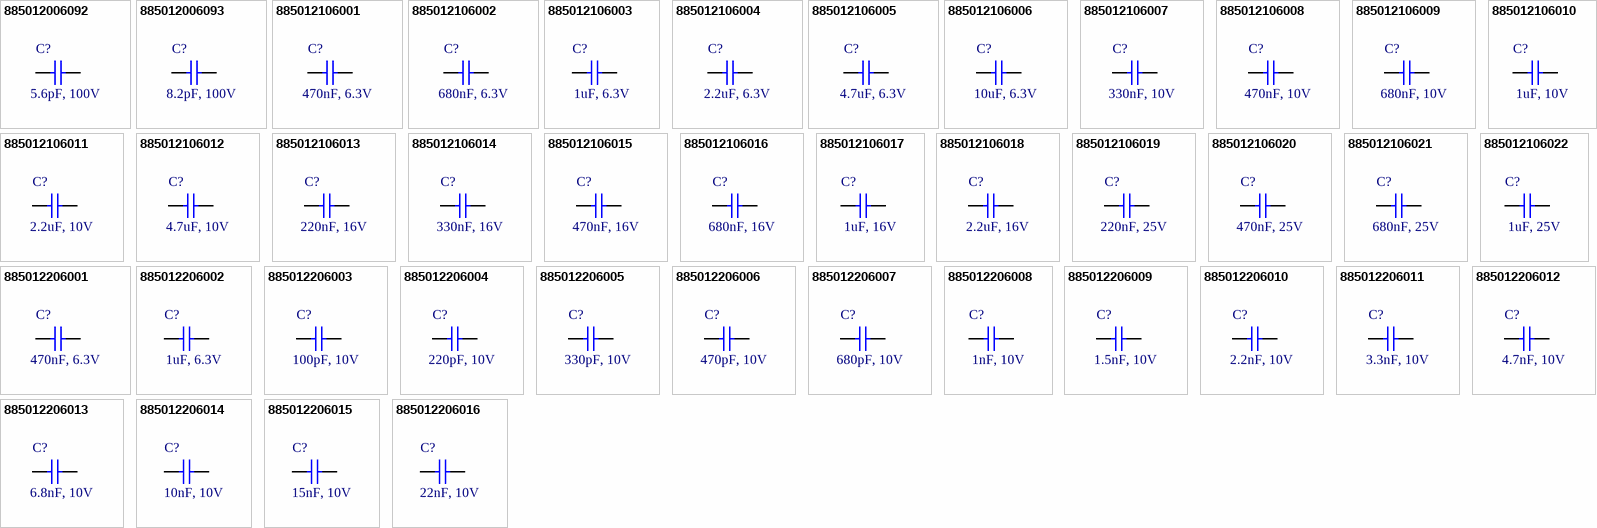
[diagram p7: symbols 885012006092 to 885012206016]

## 885012006092
designator C?, comment 5.6pF, 100V
WCAP-CSGP General Purpose Ceramic Capacitors, size 0603, 5.6pF, +/-0.5pF, 100VDC; Part Number: 885012006092; Isolation Resistance: >=10GOhm; Ceramic Type: NP0; Dissipation Factor: Q>=400+20C; Technical Reference: NP006035R6D100DFCT10000; ComponentLink1Description: Manufacturer; ComponentLink1URL: http://www.we-online.de; ComponentLink2Description: Datasheet; ComponentLink2URL: https://katalog.we-online.com/pbs/datasheet/885012006092.pdf; Operating Temperature: -55 to +125degC; Packaging: Tape and Reel; Publisher: Wurth Elektronik; Rated Voltage: 100VDC; Published Date: August 2019; Capacitance Tolerance: +/-0.5pF; Height: 0.8mm +/-0.07mm; Mounting Technology: SMT; Size: 0603; Capacitance: 5.6pF
footprint WCAP-CSGP_0603_Wave
footprint WCAP-CSGP_0603_Reflow
pins: 1, 2

## 885012006093
designator C?, comment 8.2pF, 100V
WCAP-CSGP General Purpose Ceramic Capacitors, size 0603, 8.2pF, +/-0.5pF, 100VDC; Part Number: 885012006093; Isolation Resistance: >=10GOhm; Ceramic Type: NP0; Dissipation Factor: Q>=400+20C; Technical Reference: NP006038R2D100DFCT10000; ComponentLink1Description: Manufacturer; ComponentLink1URL: http://www.we-online.de; ComponentLink2Description: Datasheet; ComponentLink2URL: https://katalog.we-online.com/pbs/datasheet/885012006093.pdf; Operating Temperature: -55 to +125degC; Packaging: Tape and Reel; Publisher: Wurth Elektronik; Rated Voltage: 100VDC; Published Date: August 2019; Capacitance Tolerance: +/-0.5pF; Height: 0.8mm +/-0.07mm; Mounting Technology: SMT; Size: 0603; Capacitance: 8.2pF
footprint WCAP-CSGP_0603_Wave
footprint WCAP-CSGP_0603_Reflow
pins: 1, 2

## 885012106001
designator C?, comment 470nF, 6.3V
WCAP-CSGP General Purpose Ceramic Capacitors, size 0603, 470nF, +/-20%, 6.3VDC; Part Number: 885012106001; Isolation Resistance: >=0.2GOhm; Ceramic Type: X5R; Technical Reference: X5R0603474M6R3DFCT10000; ComponentLink1Description: Manufacturer; ComponentLink1URL: http://www.we-online.de; ComponentLink2Description: Datasheet; ComponentLink2URL: https://katalog.we-online.com/pbs/datasheet/885012106001.pdf; Operating Temperature: -55 to +85degC; Packaging: Tape and Reel; Publisher: Wurth Elektronik; Rated Voltage: 6.3VDC; Published Date: August 2019; Capacitance Tolerance: +/-20%; Dissipation Factor: =<10%; Height: 0.8mm +0.15/-0.10mm; Mounting Technology: SMT; Size: 0603; Capacitance: 470nF
footprint WCAP-CSGP_0603_Wave
footprint WCAP-CSGP_0603_Reflow
pins: 1, 2

## 885012106002
designator C?, comment 680nF, 6.3V
WCAP-CSGP General Purpose Ceramic Capacitors, size 0603, 680nF, +/-20%, 6.3VDC; Part Number: 885012106002; Isolation Resistance: >=0.2GOhm; Ceramic Type: X5R; Technical Reference: X5R0603684M6R3DFCT10000; ComponentLink1Description: Manufacturer; ComponentLink1URL: http://www.we-online.de; ComponentLink2Description: Datasheet; ComponentLink2URL: https://katalog.we-online.com/pbs/datasheet/885012106002.pdf; Operating Temperature: -55 to +85degC; Packaging: Tape and Reel; Publisher: Wurth Elektronik; Rated Voltage: 6.3VDC; Published Date: August 2019; Capacitance Tolerance: +/-20%; Dissipation Factor: =<10%; Height: 0.8mm +0.15/-0.10mm; Mounting Technology: SMT; Size: 0603; Capacitance: 680nF
footprint WCAP-CSGP_0603_Wave
footprint WCAP-CSGP_0603_Reflow
pins: 1, 2

## 885012106003
designator C?, comment 1uF, 6.3V
WCAP-CSGP General Purpose Ceramic Capacitors, size 0603, 1uF, +/-20%, 6.3VDC; Part Number: 885012106003; Isolation Resistance: >=0.1GOhm; Ceramic Type: X5R; Technical Reference: X5R0603105M6R3DFCT10000; ComponentLink1Description: Manufacturer; ComponentLink1URL: http://www.we-online.de; ComponentLink2Description: Datasheet; ComponentLink2URL: https://katalog.we-online.com/pbs/datasheet/885012106003.pdf; Operating Temperature: -55 to +85degC; Packaging: Tape and Reel; Publisher: Wurth Elektronik; Rated Voltage: 6.3VDC; Published Date: August 2019; Capacitance Tolerance: +/-20%; Dissipation Factor: =<10%; Height: 0.8mm +0.15/-0.10mm; Mounting Technology: SMT; Size: 0603; Capacitance: 1uF
footprint WCAP-CSGP_0603_Wave
footprint WCAP-CSGP_0603_Reflow
pins: 1, 2

## 885012106004
designator C?, comment 2.2uF, 6.3V
WCAP-CSGP General Purpose Ceramic Capacitors, size 0603, 2.2uF, +/-20%, 6.3VDC; Part Number: 885012106004; Isolation Resistance: >=0.05GOhm; Ceramic Type: X5R; Technical Reference: X5R0603225M6R3DFCT10000; ComponentLink1Description: Manufacturer; ComponentLink1URL: http://www.we-online.de; ComponentLink2Description: Datasheet; ComponentLink2URL: https://katalog.we-online.com/pbs/datasheet/885012106004.pdf; Operating Temperature: -55 to +85degC; Packaging: Tape and Reel; Publisher: Wurth Elektronik; Rated Voltage: 6.3VDC; Published Date: August 2019; Capacitance Tolerance: +/-20%; Dissipation Factor: =<10%; Height: 0.8mm +0.15/-0.10mm; Mounting Technology: SMT; Size: 0603; Capacitance: 2.2uF
footprint WCAP-CSGP_0603_Wave
footprint WCAP-CSGP_0603_Reflow
pins: 1, 2

## 885012106005
designator C?, comment 4.7uF, 6.3V
WCAP-CSGP General Purpose Ceramic Capacitors, size 0603, 4.7uF, +/-20%, 6.3VDC; Part Number: 885012106005; Isolation Resistance: >=0.02GOhm; Ceramic Type: X5R; Technical Reference: X5R0603475M6R3DFCT10000; ComponentLink1Description: Manufacturer; ComponentLink1URL: http://www.we-online.de; ComponentLink2Description: Datasheet; ComponentLink2URL: https://katalog.we-online.com/pbs/datasheet/885012106005.pdf; Operating Temperature: -55 to +85degC; Packaging: Tape and Reel; Publisher: Wurth Elektronik; Rated Voltage: 6.3VDC; Published Date: August 2019; Capacitance Tolerance: +/-20%; Dissipation Factor: =<10%; Height: 0.8mm +/-0.20mm; Mounting Technology: SMT; Size: 0603; Capacitance: 4.7uF
footprint WCAP-CSGP_0603_Wave
footprint WCAP-CSGP_0603_Reflow
pins: 1, 2